# Altium footprint library Diodes.PcbLib: 36 footprints (part 1 of 3)
Each footprint in its own frame and in the unit in brackets; x right, y up, seen from the top. Pads: shape width x height; smd on the part's side, far side on the other; paste and mask are expansions set on the pad; w line width, h text height; cw(c..) or ccw(c..) is an arc to the next point about the centre after c.
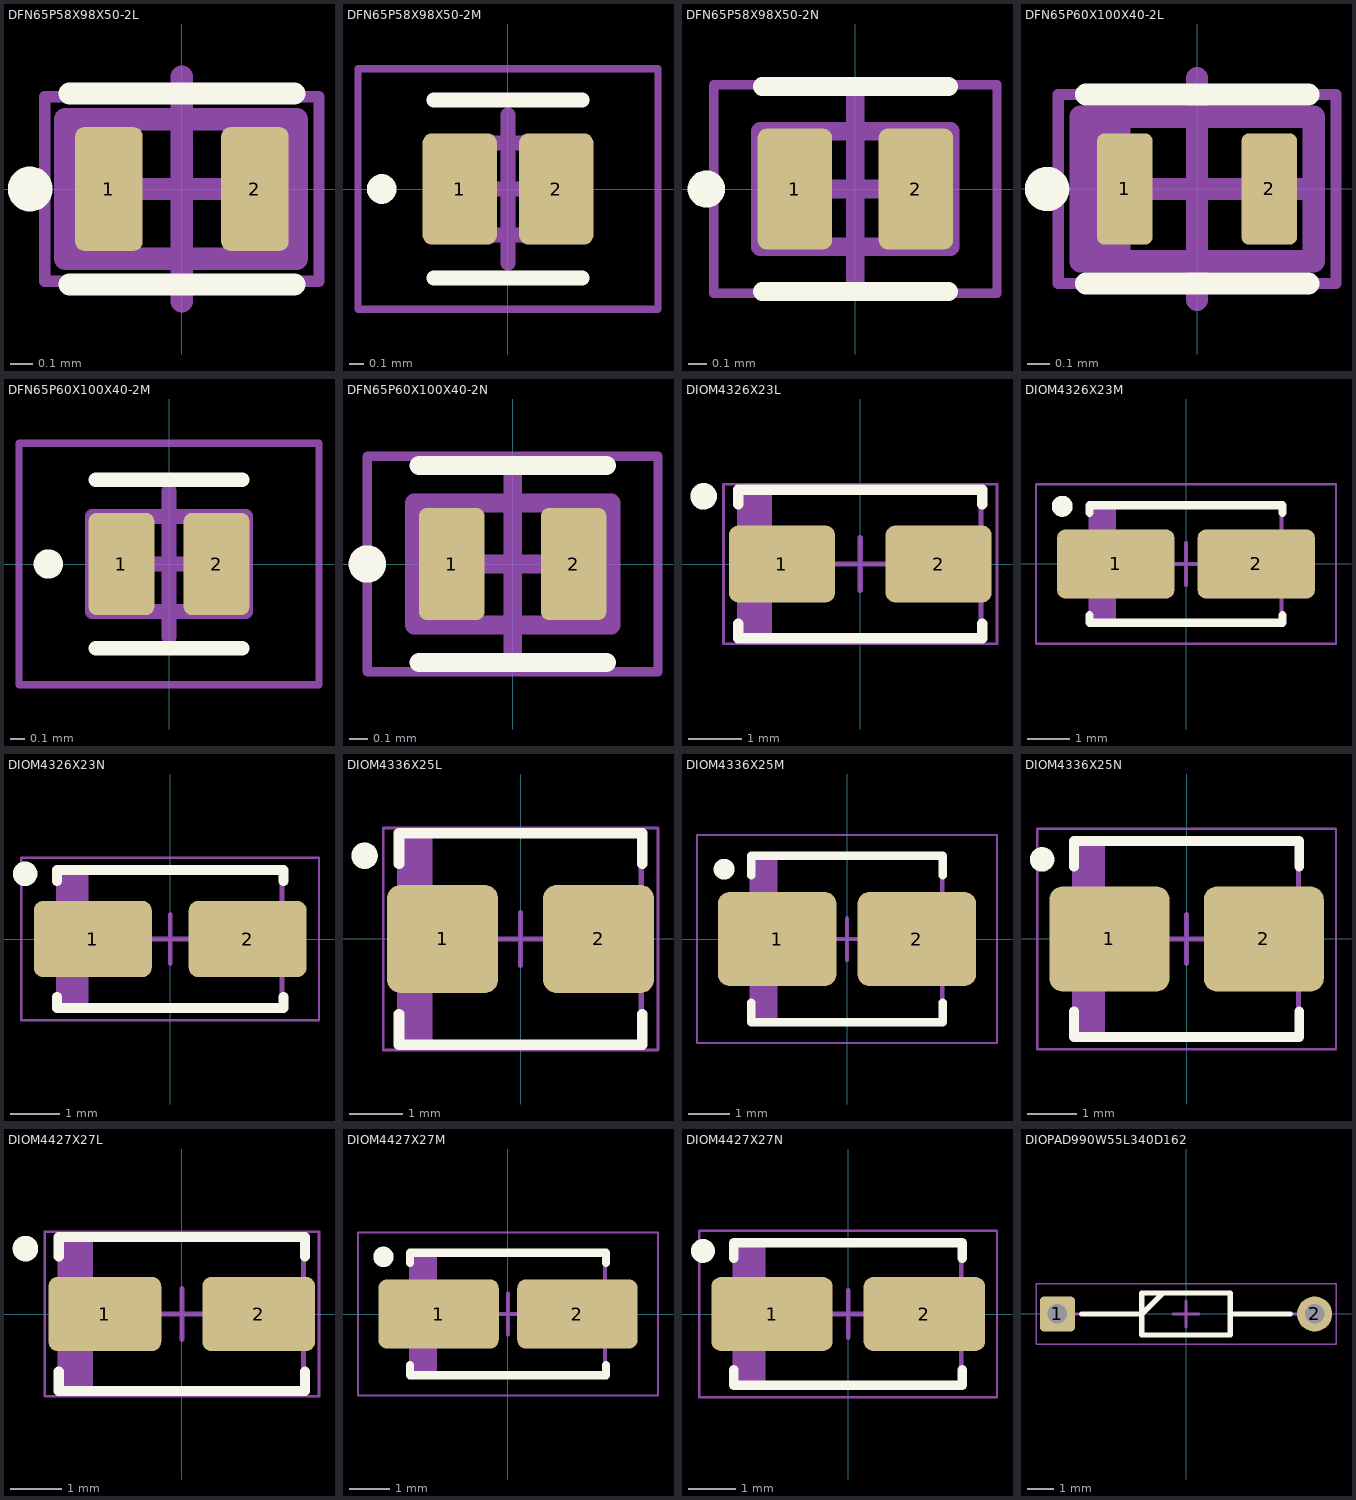
[diagram p0: the footprints below, top view; thin cyan lines are the x and y axes]

## DFN65P58X98X50-2L [mm] "DFN, 2-Leads, Body 0.59x0.99mm, Pitch 0.65mm, IPC High Density"
height 0.5
pads (2):
  rrect25% 0.3x0.55 smd paste+0 mask+0.05: 1(-0.325,0) 2(0.325,0)
Top Overlay:
  circle w0.1: c-0.675,0 r0.05
  lines w0.1: -0.5,-0.425 0.5,-0.425 ; -0.5,0.425 0.5,0.425
Top Component Outline:
  lines w0.1: -0.52,-0.31 0.5,-0.31 0.5,0.31 -0.52,0.31 -0.52,-0.31
Top Courtyard:
  lines w0.05: -0.61,-0.41 0.61,-0.41 0.61,0.41 -0.61,0.41 -0.61,-0.41
Top Component Center:
  lines w0.1: -0.5,0 0.5,0 ; 0,-0.5 0,0.5
Top Designator:
  text ".Designator" at -4.04,-0.476 h2
Top Assembly:
  rectangle: -0.51,-0.3 -0.3,0.31
  lines w0.1: -0.51,-0.31 0.51,-0.31 0.51,0.31 -0.51,0.31 -0.51,-0.31
  text ".Designator" at -4.04,-0.476 h2
3D body "NEXPERIA_DFN65P58X98X50-2.step": height 0.5, standoff 0, extent -0.493,-0.292 0.493,0.292

## DFN65P58X98X50-2M [mm] "DFN, 2-Leads, Body 0.59x0.99mm, Pitch 0.65mm, IPC Low Density"
height 0.5
pads (2):
  rrect25% 0.5x0.75 smd paste+0 mask+0.05: 1(-0.325,0) 2(0.325,0)
Top Overlay:
  circle w0.1: c-0.85,0 r0.05
  lines w0.1: -0.5,-0.6 0.5,-0.6 ; -0.5,0.6 0.5,0.6
Top Component Outline:
  lines w0.1: -0.52,-0.31 -0.52,0.31 0.5,0.31 0.5,-0.31 -0.52,-0.31
Top Courtyard:
  lines w0.05: -1.01,-0.81 -1.01,0.81 1.01,0.81 1.01,-0.81 -1.01,-0.81
Top Component Center:
  lines w0.1: -0.5,0 0.5,0 ; 0,-0.5 0,0.5
Top Designator:
  text ".Designator" at -4.04,-0.476 h2
Top Assembly:
  rectangle: -0.51,-0.3 -0.3,0.31
  lines w0.1: -0.51,-0.31 -0.51,0.31 0.51,0.31 0.51,-0.31 -0.51,-0.31
  text ".Designator" at -4.04,-0.476 h2
3D body "NEXPERIA_DFN65P58X98X50-2.step": height 0.5, standoff 0, extent -0.493,-0.292 0.493,0.292

## DFN65P58X98X50-2N [mm] "DFN, 2-Leads, Body 0.58x0.98mm, Pitch 0.65mm, IPC Medium Density"
height 0.5
pads (2):
  rrect25% 0.4x0.65 smd paste+0 mask+0.05: 1(-0.325,0) 2(0.325,0)
Top Overlay:
  circle w0.1: c-0.8,0 r0.05
  lines w0.1: -0.5,-0.55 0.5,-0.55 ; -0.5,0.55 0.5,0.55
Top Component Outline:
  lines w0.1: -0.51,-0.31 -0.51,0.31 0.51,0.31 0.51,-0.31 -0.51,-0.31
Top Courtyard:
  lines w0.05: -0.76,-0.56 -0.76,0.56 0.76,0.56 0.76,-0.56 -0.76,-0.56
Top Component Center:
  lines w0.1: -0.5,0 0.5,0 ; 0,-0.5 0,0.5
Top Designator:
  text ".Designator" at -4.04,-0.476 h2
Top Assembly:
  rectangle: -0.51,-0.3 -0.3,0.31
  lines w0.1: -0.51,-0.31 -0.51,0.31 0.51,0.31 0.51,-0.31 -0.51,-0.31
  text ".Designator" at -4.04,-0.476 h2
3D body "NEXPERIA_DFN65P58X98X50-2.step": height 0.5, standoff 0, extent -0.493,-0.292 0.493,0.292

## DFN65P60X100X40-2L [mm] "DFN, 2-Leads, Body 0.60x1.00mm, Pitch 0.65mm, IPC High Density"
height 0.4
pads (2):
  rrect25% 0.25x0.5 smd paste+0 mask+0.05: 1(-0.325,0) 2(0.325,0)
Top Overlay:
  circle w0.1: c-0.675,0 r0.05
  lines w0.1: -0.5,-0.425 0.5,-0.425 ; -0.5,0.425 0.5,0.425
Top Component Outline:
  lines w0.1: -0.525,-0.325 -0.525,0.325 0.525,0.325 0.525,-0.325 -0.525,-0.325
Top Courtyard:
  lines w0.05: -0.625,-0.425 -0.625,0.425 0.625,0.425 0.625,-0.425 -0.625,-0.425
Top Component Center:
  lines w0.1: -0.5,0 0.5,0 ; 0,-0.5 0,0.5
Top Designator:
  text ".Designator" at -4.04,-0.476 h2
Top Assembly:
  rectangle: -0.51,-0.3 -0.3,0.31
  lines w0.1: -0.525,-0.325 -0.525,0.325 0.525,0.325 0.525,-0.325 -0.525,-0.325
  text ".Designator" at -4.04,-0.476 h2
3D body "DFN65P60X100X40-2.step": height 0.4, standoff 0, extent -0.525,-0.325 0.525,0.325

## DFN65P60X100X40-2M [mm] "DFN, 2-Leads, Body 0.60x1.00mm, Pitch 0.65mm, IPC Low Density"
height 0.4
pads (2):
  rrect25% 0.45x0.7 smd paste+0 mask+0.05: 1(-0.325,0) 2(0.325,0)
Top Overlay:
  circle w0.1: c-0.825,0 r0.05
  lines w0.1: -0.5,-0.575 0.5,-0.575 ; -0.5,0.575 0.5,0.575
Top Component Outline:
  lines w0.1: -0.525,-0.325 0.525,-0.325 0.525,0.325 -0.525,0.325 -0.525,-0.325
Top Courtyard:
  lines w0.05: -1.025,-0.825 -1.025,0.825 1.025,0.825 1.025,-0.825 -1.025,-0.825
Top Component Center:
  lines w0.1: -0.5,0 0.5,0 ; 0,-0.5 0,0.5
Top Designator:
  text ".Designator" at -4.04,-0.476 h2
Top Assembly:
  rectangle: -0.51,-0.3 -0.3,0.31
  lines w0.1: -0.525,-0.325 -0.525,0.325 0.525,0.325 0.525,-0.325 -0.525,-0.325
  text ".Designator" at -4.04,-0.476 h2
3D body "DFN65P60X100X40-2.step": height 0.4, standoff 0, extent -0.525,-0.325 0.525,0.325

## DFN65P60X100X40-2N [mm] "DFN, 2-Leads, Body 0.60x1.00mm, Pitch 0.65mm, IPC Medium Density"
height 0.4
pads (2):
  rrect25% 0.35x0.6 smd paste+0 mask+0.05: 1(-0.325,0) 2(0.325,0)
Top Overlay:
  circle w0.1: c-0.775,0 r0.05
  lines w0.1: -0.5,-0.525 0.5,-0.525 ; -0.5,0.525 0.5,0.525
Top Component Outline:
  lines w0.1: -0.525,-0.325 0.525,-0.325 0.525,0.325 -0.525,0.325 -0.525,-0.325
Top Courtyard:
  lines w0.05: -0.775,-0.575 0.775,-0.575 0.775,0.575 -0.775,0.575 -0.775,-0.575
Top Component Center:
  lines w0.1: -0.5,0 0.5,0 ; 0,-0.5 0,0.5
Top Designator:
  text ".Designator" at -4.04,-0.476 h2
Top Assembly:
  rectangle: -0.51,-0.3 -0.3,0.31
  lines w0.1: -0.525,-0.325 0.525,-0.325 0.525,0.325 -0.525,0.325 -0.525,-0.325
  text ".Designator" at -4.04,-0.476 h2
3D body "DFN65P60X100X40-2.step": height 0.4, standoff 0, extent -0.525,-0.325 0.525,0.325

## DIOM4326X23L [mm] "Molded Diode, 2-Leads, Body 4.32x2.63mm, IPC High Density"
height 2.26
pads (2):
  rrect25% 2x1.45 smd paste+0 mask+0.05: 1(-1.475,0) 2(1.475,0)
Top Overlay:
  circle w0.25: c-2.95,1.275 r0.125
  lines w0.2: -2.3,-1.125 -2.3,-1.4 2.3,-1.4 2.3,-1.125 ; -2.3,1.125 -2.3,1.4 2.3,1.4 2.3,1.125
Top Component Outline:
  lines w0.1: -2.275,-1.38 2.275,-1.38 2.275,1.38 -2.275,1.38 -2.275,-1.38
Top Courtyard:
  lines w0.05: -2.575,-1.5 -2.575,1.5 2.575,1.5 2.575,-1.5 -2.575,-1.5
Top Component Center:
  lines w0.1: -0.5,0 0.5,0 ; 0,-0.5 0,0.5
Top Designator:
  text ".Designator" at -4.04,-0.476 h2
Top Assembly:
  rectangle: -2.275,-1.38 -1.663,1.38
  lines w0.1: -2.275,-1.38 -2.275,1.38 2.275,1.38 2.275,-1.38 -2.275,-1.38
  text ".Designator" at -4.04,-0.476 h2
3D body "DIOM4326X23.step": height 2.26, standoff 0, extent -2.495,-1.38 2.495,1.38

## DIOM4326X23M [mm] "Molded Diode, 2-Leads, Body 4.32x2.63mm, IPC Low Density"
height 2.26
pads (2):
  rrect25% 2.8x1.65 smd paste+0 mask+0.05: 1(-1.675,0) 2(1.675,0)
Top Overlay:
  circle w0.25: c-2.95,1.375 r0.125
  lines w0.2: -2.3,-1.225 -2.3,-1.4 2.3,-1.4 2.3,-1.225 ; -2.3,1.225 -2.3,1.4 2.3,1.4 2.3,1.225
Top Component Outline:
  lines w0.1: -2.275,-1.38 -2.275,1.38 2.275,1.38 2.275,-1.38 -2.275,-1.38
Top Courtyard:
  lines w0.05: -3.575,-1.9 3.575,-1.9 3.575,1.9 -3.575,1.9 -3.575,-1.9
Top Component Center:
  lines w0.1: -0.5,0 0.5,0 ; 0,-0.5 0,0.5
Top Designator:
  text ".Designator" at -4.04,-0.476 h2
Top Assembly:
  rectangle: -2.275,-1.38 -1.663,1.38
  lines w0.1: -2.275,-1.38 2.275,-1.38 2.275,1.38 -2.275,1.38 -2.275,-1.38
  text ".Designator" at -4.04,-0.476 h2
3D body "DIOM4326X23.step": height 2.26, standoff 0, extent -2.495,-1.38 2.495,1.38

## DIOM4326X23N [mm] "Molded Diode, 2-Leads, Body 4.32x2.63mm, IPC Medium Density"
height 2.26
pads (2):
  rrect25% 2.4x1.55 smd paste+0 mask+0.05: 1(-1.575,0) 2(1.575,0)
Top Overlay:
  circle w0.25: c-2.95,1.325 r0.125
  lines w0.2: -2.3,-1.175 -2.3,-1.4 2.3,-1.4 2.3,-1.175 ; -2.3,1.175 -2.3,1.4 2.3,1.4 2.3,1.175
Top Component Outline:
  lines w0.1: -2.275,-1.38 2.275,-1.38 2.275,1.38 -2.275,1.38 -2.275,-1.38
Top Courtyard:
  lines w0.05: -3.025,-1.65 3.025,-1.65 3.025,1.65 -3.025,1.65 -3.025,-1.65
Top Component Center:
  lines w0.1: -0.5,0 0.5,0 ; 0,-0.5 0,0.5
Top Designator:
  text ".Designator" at -4.04,-0.476 h2
Top Assembly:
  rectangle: -2.275,-1.38 -1.663,1.38
  lines w0.1: -2.275,-1.38 2.275,-1.38 2.275,1.38 -2.275,1.38 -2.275,-1.38
  text ".Designator" at -4.04,-0.476 h2
3D body "DIOM4326X23.step": height 2.26, standoff 0, extent -2.495,-1.38 2.495,1.38

## DIOM4336X25L [mm] "Molded Diode, 2-Leads, Body 4.31x3.62mm, IPC High Density"
height 2.5
pads (2):
  rrect25% 2.1x2.05 smd paste+0 mask+0.05: 1(-1.475,0) 2(1.475,0)
Top Overlay:
  circle w0.25: c-2.95,1.575 r0.125
  lines w0.2: -2.3,-1.425 -2.3,-2 2.3,-2 2.3,-1.425 ; -2.3,1.425 -2.3,2 2.3,2 2.3,1.425
Top Component Outline:
  lines w0.1: -2.285,-1.97 2.285,-1.97 2.285,1.97 -2.285,1.97 -2.285,-1.97
Top Courtyard:
  lines w0.05: -2.6,-2.1 2.6,-2.1 2.6,2.1 -2.6,2.1 -2.6,-2.1
Top Component Center:
  lines w0.1: -0.5,0 0.5,0 ; 0,-0.5 0,0.5
Top Assembly:
  rectangle: -2.285,-1.97 -1.67,1.97
  lines w0.1: -2.285,-1.97 2.285,-1.97 2.285,1.97 -2.285,1.97 -2.285,-1.97
3D body "DIOM4336X25.step": height 2.5, standoff 0, extent -2.505,-1.97 2.505,1.97

## DIOM4336X25M [mm] "Molded Diode, 2-Leads, Body 4.31x3.62mm, IPC Low Density"
height 2.5
pads (2):
  rrect25% 2.85x2.25 smd paste+0 mask+0.05: 1(-1.675,0) 2(1.675,0)
Top Overlay:
  circle w0.25: c-2.95,1.675 r0.125
  lines w0.2: -2.3,-1.525 -2.3,-2 2.3,-2 2.3,-1.525 ; -2.3,1.525 -2.3,2 2.3,2 2.3,1.525
Top Component Outline:
  lines w0.1: -2.285,-1.97 -2.285,1.97 2.285,1.97 2.285,-1.97 -2.285,-1.97
Top Courtyard:
  lines w0.05: -3.6,-2.5 -3.6,2.5 3.6,2.5 3.6,-2.5 -3.6,-2.5
Top Component Center:
  lines w0.1: -0.5,0 0.5,0 ; 0,-0.5 0,0.5
Top Assembly:
  rectangle: -2.285,-1.97 -1.67,1.97
  lines w0.1: -2.285,-1.97 -2.285,1.97 2.285,1.97 2.285,-1.97 -2.285,-1.97
3D body "DIOM4336X25.step": height 2.5, standoff 0, extent -2.505,-1.97 2.505,1.97

## DIOM4336X25N [mm] "Molded Diode, 2-Leads, Body 4.31x3.62mm, IPC Medium Density"
height 2.5
pads (2):
  rrect25% 2.45x2.15 smd paste+0 mask+0.05: 1(-1.575,0) 2(1.575,0)
Top Overlay:
  circle w0.25: c-2.95,1.625 r0.125
  lines w0.2: -2.3,-1.475 -2.3,-2 2.3,-2 2.3,-1.475 ; -2.3,1.475 -2.3,2 2.3,2 2.3,1.475
Top Component Outline:
  lines w0.1: -2.285,-1.97 -2.285,1.97 2.285,1.97 2.285,-1.97 -2.285,-1.97
Top Courtyard:
  lines w0.05: -3.05,-2.25 -3.05,2.25 3.05,2.25 3.05,-2.25 -3.05,-2.25
Top Component Center:
  lines w0.1: -0.5,0 0.5,0 ; 0,-0.5 0,0.5
Top Designator:
  text ".Designator" at -4.04,-0.476 h2
Top Assembly:
  rectangle: -2.285,-1.97 -1.67,1.97
  lines w0.1: -2.285,-1.97 -2.285,1.97 2.285,1.97 2.285,-1.97 -2.285,-1.97
  text ".Designator" at -4.04,-0.476 h2
3D body "DIOM4336X25.step": height 2.5, standoff 0, extent -2.505,-1.97 2.505,1.97

## DIOM4427X27L [mm] "Molded Diode, 2-Leads, Body 4.38x2.73mm, IPC High Density"
height 2.7
pads (2):
  rrect25% 2.2x1.45 smd paste+0 mask+0.05: 1(-1.5,0) 2(1.5,0)
Top Overlay:
  circle w0.25: c-3.05,1.275 r0.125
  lines w0.2: -2.4,-1.125 -2.4,-1.5 2.4,-1.5 2.4,-1.125 ; -2.4,1.125 -2.4,1.5 2.4,1.5 2.4,1.125
Top Component Outline:
  lines w0.1: -2.375,-1.475 2.375,-1.475 2.375,1.475 -2.375,1.475 -2.375,-1.475
Top Courtyard:
  lines w0.05: -2.675,-1.6 2.675,-1.6 2.675,1.6 -2.675,1.6 -2.675,-1.6
Top Component Center:
  lines w0.1: -0.5,0 0.5,0 ; 0,-0.5 0,0.5
Top Designator:
  text ".Designator" at -4.04,-0.476 h2
Top Assembly:
  rectangle: -2.375,-1.475 -1.736,1.475
  lines w0.1: -2.375,-1.475 2.375,-1.475 2.375,1.475 -2.375,1.475 -2.375,-1.475
  text ".Designator" at -4.04,-0.476 h2
3D body "DIOM4427X27.step": height 2.7, standoff 0, extent -2.595,-1.475 2.595,1.475

## DIOM4427X27M [mm] "Molded Diode, 2-Leads, Body 4.38x2.73mm, IPC Low Density"
height 2.7
pads (2):
  rrect25% 2.95x1.7 smd paste+0 mask+0.05: 1(-1.7,0) 2(1.7,0)
Top Overlay:
  circle w0.25: c-3.05,1.4 r0.125
  lines w0.2: -2.4,-1.25 -2.4,-1.5 2.4,-1.5 2.4,-1.25 ; -2.4,1.25 -2.4,1.5 2.4,1.5 2.4,1.25
Top Component Outline:
  lines w0.1: -2.375,-1.475 2.375,-1.475 2.375,1.475 -2.375,1.475 -2.375,-1.475
Top Courtyard:
  lines w0.05: -3.675,-2 -3.675,2 3.675,2 3.675,-2 -3.675,-2
Top Component Center:
  lines w0.1: -0.5,0 0.5,0 ; 0,-0.5 0,0.5
Top Designator:
  text ".Designator" at -4.04,-0.476 h2
Top Assembly:
  rectangle: -2.375,-1.475 -1.736,1.475
  lines w0.1: -2.375,-1.475 -2.375,1.475 2.375,1.475 2.375,-1.475 -2.375,-1.475
  text ".Designator" at -4.04,-0.476 h2
3D body "DIOM4427X27.step": height 2.7, standoff 0, extent -2.595,-1.475 2.595,1.475

## DIOM4427X27N [mm] "Molded Diode, 2-Leads, Body 4.38x2.73mm, IPC Medium Density"
height 2.7
pads (2):
  rrect25% 2.55x1.55 smd paste+0 mask+0.05: 1(-1.6,0) 2(1.6,0)
Top Overlay:
  circle w0.25: c-3.05,1.325 r0.125
  lines w0.2: -2.4,-1.175 -2.4,-1.5 2.4,-1.5 2.4,-1.175 ; -2.4,1.175 -2.4,1.5 2.4,1.5 2.4,1.175
Top Component Outline:
  lines w0.1: -2.375,-1.475 -2.375,1.475 2.375,1.475 2.375,-1.475 -2.375,-1.475
Top Courtyard:
  lines w0.05: -3.125,-1.75 -3.125,1.75 3.125,1.75 3.125,-1.75 -3.125,-1.75
Top Component Center:
  lines w0.1: -0.5,0 0.5,0 ; 0,-0.5 0,0.5
Top Designator:
  text ".Designator" at -3.94,-0.476 h2
Top Assembly:
  rectangle: -2.375,-1.475 -1.736,1.475
  lines w0.1: -2.375,-1.475 -2.375,1.475 2.375,1.475 2.375,-1.475 -2.375,-1.475
  text ".Designator" at -4.04,-0.476 h2
3D body "DIOM4427X27.step": height 2.7, standoff 0, extent -2.595,-1.475 2.595,1.475

## DIOPAD990W55L340D162 [mm] "Diode, Polarized Axial Diameter; Lead Spacing 9.90mm, Lead Width 0.55mm, Body Length 3.40mm, Body Diameter 1.62mm"
height 1.75
pads (2):
  rrect25% 1.35x1.35 hole 0.75 paste-1000 mask+0.05: 1(-4.95,0)
  round 1.35 hole 0.75 paste-1000 mask+0.05: 2(4.95,0)
Top Overlay:
  lines w0.2: -4.025,0 -1.7,0 -0.888,0.812 ; 1.7,0 4.025,0 ; -1.7,-0.812 1.7,-0.812 1.7,0.812 -1.7,0.812 -1.7,-0.812
Top Component Outline:
  lines w0.1: -4.95,0 -1.7,0 ; 1.7,0 4.95,0 ; -1.7,-0.813 1.7,-0.813 1.7,0.812 -1.7,0.812 -1.7,-0.813
Top Courtyard:
  lines w0.05: -5.775,-1.163 5.775,-1.163 5.775,1.162 -5.775,1.162 -5.775,-1.163
Top Component Center:
  lines w0.1: -0.5,0 0.5,0 ; 0,-0.5 0,0.5
Top Designator:
  text ".Designator" at -4.04,-0.476 h2
Top Assembly:
  lines w0.1: -4.95,0 -1.7,0 -0.888,0.812 ; 1.7,0 4.95,0 ; -1.7,-0.813 1.7,-0.813 1.7,0.812 -1.7,0.812 -1.7,-0.813
  text ".Designator" at -4.04,-0.476 h2
3D body "DIOPAD990W55L340D162.step": height 1.75, standoff -1.75, extent -5.225,-0.869 5.225,0.869